# EAGLE library part RELAY_DPDT (library HyTechDevices)
Dual Pole, Dual Throw Relay Datasheet <https://www.mouser.com/datasheet/2/418/5/NG_DS_RT2_1014-572844.pdf>
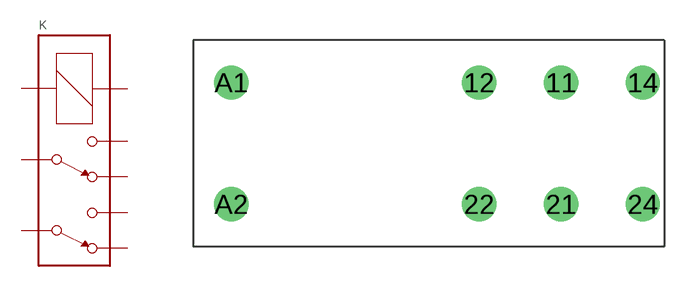
[diagram p36: symbol with the pads of RT*2*; footprint RT*2*]

Designator prefix K

## RELAY_DPDT (DKPN: PB2021-ND; MANUFACTURER: TE Connectivity; MOPN: 655-6-1393243-2; MPN: RT424009)  [RT*2*]
11  3
12  2
14  4
21  6
22  7
24  5
A1  COIL+
A2  COIL-

## Footprint RT*2* (pad centres in mm)
RT Form C Relay Datasheet <https://www.mouser.com/datasheet/2/418/5/NG_DS_RT2_1014-583824.pdf>
drill 1.4: 11 0,3.75; 12 -5.04,3.75; 14 5.04,3.75; 21 0,-3.75; 22 -5.04,-3.75; 24 5.04,-3.75; A1 -20.3,3.75; A2 -20.3,-3.75